# Altium footprint library SMTU2032LF.PcbLib: 1 footprints
Each footprint in its own frame and in the unit in brackets; x right, y up, seen from the top. Pads: shape width x height; smd on the part's side, far side on the other; paste and mask are expansions set on the pad; w line width, h text height; cw(c..) or ccw(c..) is an arc to the next point about the centre after c.
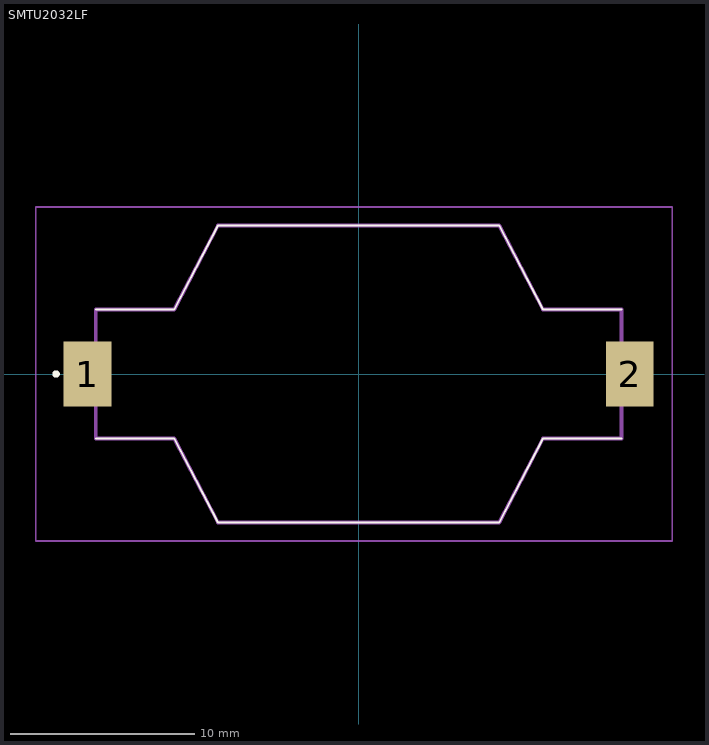
[diagram p0: the footprint, top view; thin cyan lines are the x and y axes]

## SMTU2032LF [mm]
pads (2):
  rect 2.6x3.5 smd: 1(-14.7,0) 2(14.7,0)
Top Overlay:
  lines w0.1: -14.25,-3.5 -10,-3.5 -7.62,-8.05 7.62,-8.05 10,-3.5 14.25,-3.5 ; -14.25,3.5 -10,3.5 -7.62,8.05 7.62,8.05 10,3.5 14.25,3.5
  lines w0.2: -16.4,-0.1 ccw(c-16.4,0) -16.4,0.1 ; -16.4,-0.1 -16.4,-0.1 ; -16.4,-0.1 cw(c-16.4,0) -16.4,0.1 ; -16.4,0.1 -16.4,0.1
Mechanical 15:
  lines w0.2: -14.25,-3.5 -14.25,3.5 -10,3.5 -7.62,8.05 7.62,8.05 10,3.5 14.25,3.5 14.25,-3.5 10,-3.5 7.62,-8.05 -7.62,-8.05 -10,-3.5 -14.25,-3.5
Mechanical 20:
  lines w0.1: -17.5,-9.05 17,-9.05 17,9.05 -17.5,9.05 -17.5,-9.05